# Altium schematic symbol library pre_POWERSOURCE.SchLib: 18 symbols
Pins are listed as number, name and electrical type; pins without a type are passive.

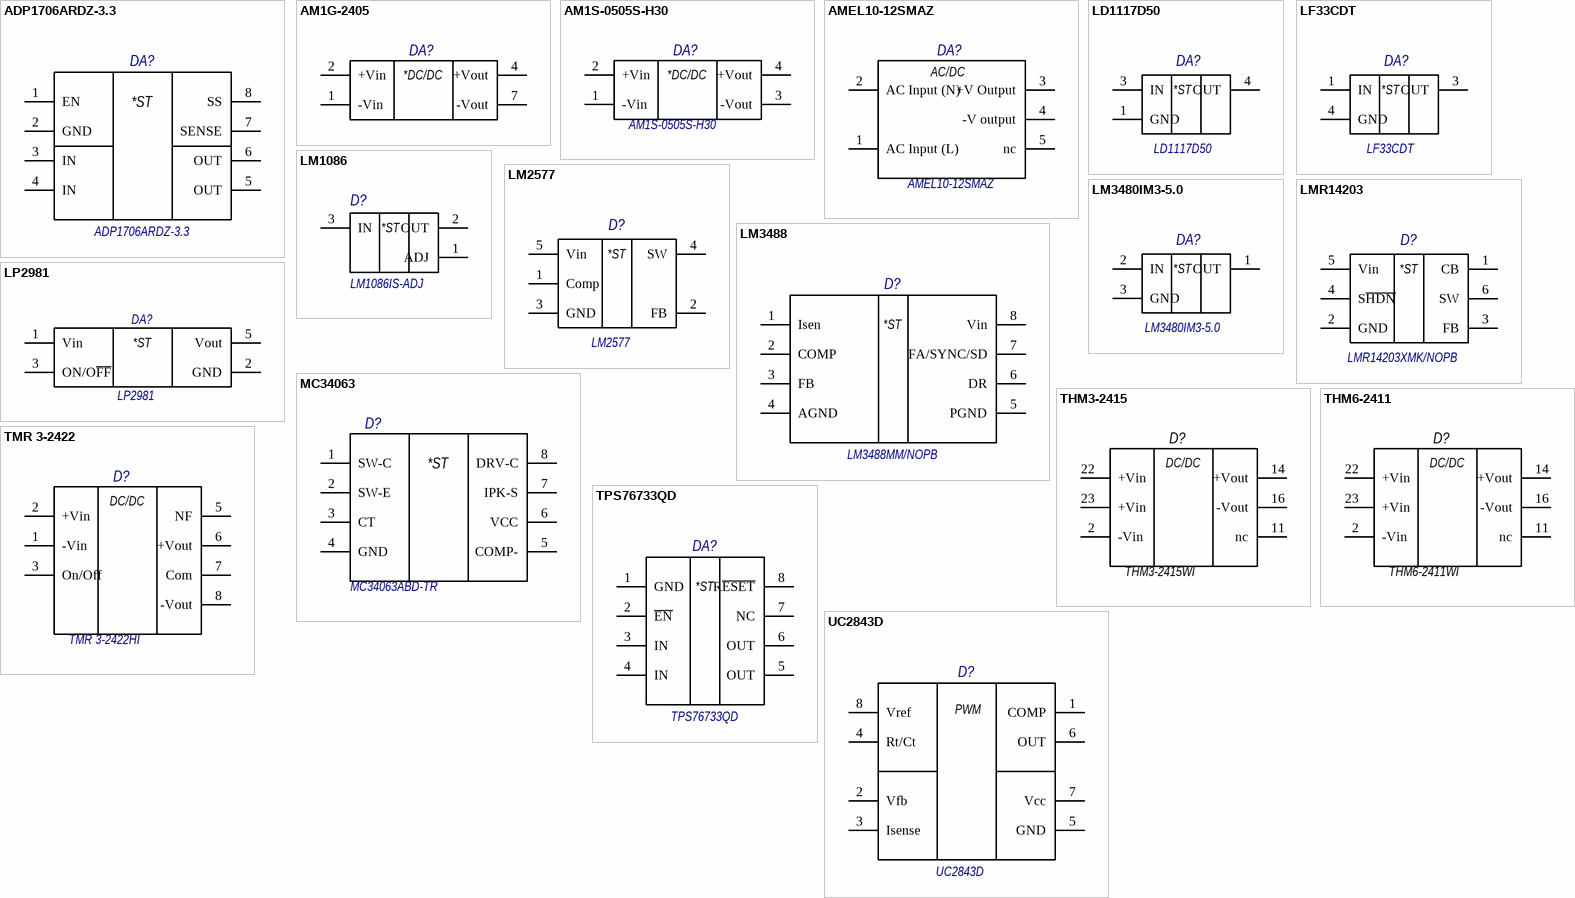
[diagram p0: symbols ADP1706ARDZ-3.3 to UC2843D]

## ADP1706ARDZ-3.3
designator DA?  Type: ADP1706ARDZ-3.3  (hidden comment: *)
footprint SO-8
pins: 1 EN, 2 GND, 3 IN, 4 IN, 5 OUT, 6 OUT, 7 SENSE, 8 SS
text: *ST

## AM1G-2405
designator DA?  (value not drawn)
footprint AM1G-2405
pins: 1 -Vin (power), 2 +Vin (power), 4 +Vout (power), 7 -Vout (power)
text: *DC/DC

## AM1S-0505S-H30
designator DA?  Type: AM1S-0505S-H30  (hidden comment: *)
pins: 1 -Vin (power), 2 +Vin (power), 3 -Vout (power), 4 +Vout (power)
text: *DC/DC

## AMEL10-12SMAZ
designator DA?  Type: AMEL10-12SMAZ  (hidden comment: *)
footprint AMEL10-12SMAZ
pins: 1 AC Input (L) (power), 2 AC Input (N) (power), 3 +V Output (power), 4 -V output (power), 5 nc (power)
text: AC/DC

## LD1117D50
designator DA?  Type: LD1117D50  (hidden comment: *)
footprint DPAK-3N (D-PAK, 3-Pads, Body 6,20x6,66mm (max), IPC Medium Density)
pins: 1 GND, 2 hidden, 3 IN, 4 OUT
text: *ST

## LF33CDT
designator DA?  Type: LF33CDT  (hidden comment: *)
footprint DPAK
pins: 1 IN, 2 hidden, 3 OUT, 4 GND
text: *ST

## LM1086
designator D?, comment LM1086IS-ADJ
pins: 1 ADJ, 2 OUT, 3 IN
text: *ST

## LM2577
designator D?  Type: LM2577  (hidden comment: *)
footprint TO-263-5
pins: 1 Comp, 2 FB, 3 GND, 4 SW, 5 Vin, 6 GND hidden to GND
text: *ST

## LM3480IM3-5.0
designator DA?  Type: LM3480IM3-5.0  (hidden comment: *)
footprint SOT-23
pins: 1 OUT, 2 hidden, 2 IN, 3 GND
text: *ST

## LM3488
designator D?  Type: LM3488MM/NOPB  (hidden comment: *)
footprint MSOP-8
pins: 1 Isen, 2 COMP, 3 FB, 4 AGND, 5 PGND, 6 DR, 7 FA/SYNC/SD, 8 Vin
text: *ST

## LMR14203
designator D?  Type: LMR14203XMK/NOPB  (hidden comment: *)
footprint SOT-23-6
pins: 1 CB, 2 GND, 3 FB, 4 S~{HDN}, 5 Vin, 6 SW
text: *ST

## LP2981
designator DA?  Type: LP2981  (hidden comment: *)
footprint SOT-23-5
pins: 1 Vin, 2 GND, 3 ON/O~{FF}, 5 Vout
text: *ST

## MC34063
designator D?  Type: MC34063ABD-TR  (hidden comment: MC34063)
footprint SO-8
pins: 1 SW-C, 2 SW-E, 3 CT, 4 GND, 5 COMP-, 6 VCC, 7 IPK-S, 8 DRV-C
text: *ST

## THM3-2415
designator D?  Type: THM3-2415WI  (hidden comment: *)
footprint THM6WI
pins: 2 -Vin (power), 11 nc (power), 14 +Vout (power), 16 -Vout (power), 22 +Vin (power), 23 +Vin (power)
text: DC/DC

## THM6-2411
designator D?  Type: THM6-2411WI  (hidden comment: *)
footprint THM6WI
pins: 2 -Vin (power), 11 nc (power), 14 +Vout (power), 16 -Vout (power), 22 +Vin (power), 23 +Vin (power)
text: DC/DC

## TMR 3-2422
designator D?  Type: TMR 3-2422HI  (hidden comment: *)
footprint TMR 3-2422
pins: 1 -Vin (power), 2 +Vin (power), 3 On/Off (power), 5 NF (power), 6 +Vout (power), 7 Com (power), 8 -Vout (power)
text: DC/DC

## TPS76733QD
designator DA?  Type: TPS76733QD  (hidden comment: *)
footprint SO-8
pins: 1 GND, 2 ~{EN}, 3 IN, 4 IN, 5 OUT, 6 OUT, 7 NC, 8 R~{ESET}
text: *ST

## UC2843D
designator D?  Type: UC2843D  (hidden comment: *)
Current Mode PWM Controller
footprint SO-8
pins: 1 COMP, 2 Vfb, 3 Isense, 4 Rt/Ct, 5 GND, 6 OUT, 7 Vcc, 8 Vref
text: PWM